# Altium footprint library z80uPC.PcbLib: 1 footprints
Each footprint in its own frame and in the unit in brackets; x right, y up, seen from the top. Pads: shape width x height; smd on the part's side, far side on the other; paste and mask are expansions set on the pad; w line width, h text height; cw(c..) or ccw(c..) is an arc to the next point about the centre after c.
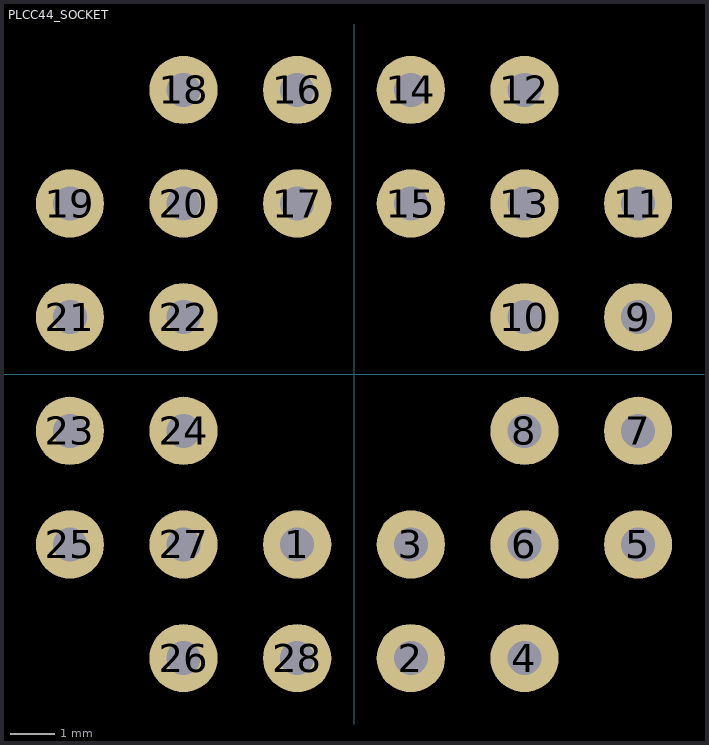
[diagram p0: the footprint, top view; thin cyan lines are the x and y axes]

## PLCC44_SOCKET [mil] "Socket for PLCC44"
height 380
pads (28):
  round 60 hole 30: 1(-50,-150) 2(50,-250) 3(50,-150) 4(150,-250) 5(250,-150) 6(150,-150) 7(250,-50) 8(150,-50) 9(250,50) 10(150,50) 11(250,150) 12(150,250) 13(150,150) 14(50,250) 15(50,150) 16(-50,250) 17(-50,150) 18(-150,250) 19(-250,150) 20(-150,150) 21(-250,50) 22(-150,50) 23(-250,-50) 24(-150,-50) 25(-250,-150) 26(-150,-250) 27(-150,-150) 28(-50,-250)